# EAGLE library part HRS-MICRO-SD-PIGGY (library hirosemicrosd-piggy)
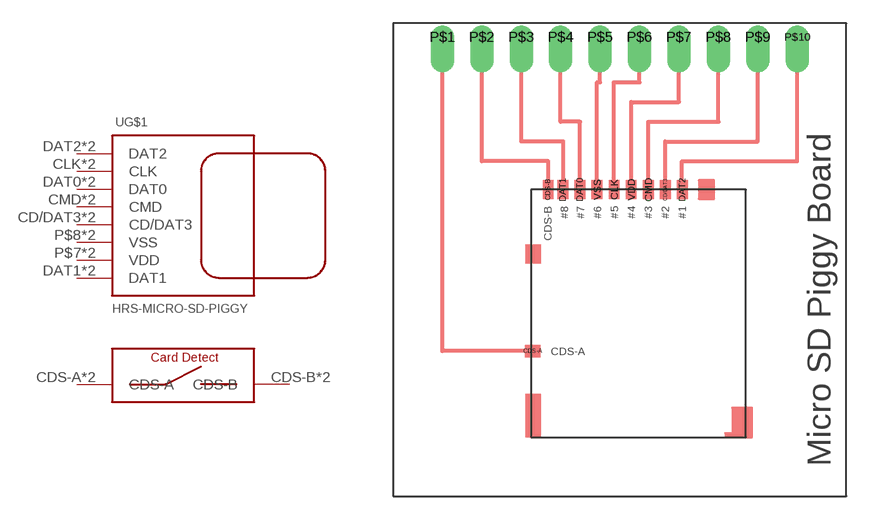
[diagram p1: symbol with the pads of HIROSE-MICROSD-V2; footprint HIROSE-MICROSD-V2]

Designator prefix -; gates G$1=HIROSE-MICRO-SD G$2=MICRO-SD-CDS

## HRS-MICRO-SD-PIGGY  [HIROSE-MICROSD-V2]
CD/DAT3  G$1:CD/DAT3
CDS-A  G$2:CDS-A
CDS-B  G$2:CDS-B
CLK  G$1:CLK
CMD  G$1:CMD
DAT0  G$1:DAT0
DAT1  G$1:DAT1
DAT2  G$1:DAT2
P$1  G$1:CD/DAT3
P$2  G$1:CLK
P$3  G$1:DAT0
P$4  G$1:DAT1
P$5  G$1:CMD
P$6  G$1:DAT2
P$7  G$1:VDD  pas
P$8  G$1:VSS  pas
P$9  G$2:CDS-A
P$10  G$2:CDS-B
VDD  G$1:VDD  pas
VSS  G$1:VSS  pas

## Footprint HIROSE-MICROSD-V2 (pad centres in mm)
smd 0.7 x 1.2: CD/DAT3 7.38,14.68; CDS-B -0.17,14.68; CLK 4.08,14.68; CMD 6.28,14.68; DAT0 1.88,14.68; DAT1 0.78,14.68; DAT2 8.48,14.68; VDD 5.18,14.68; VSS 2.98,14.68
smd 1 x 0.8: CDS-A -1.17,4.28
drill 1 offset: P$1 -6.985,24.511; P$2 -4.445,24.511; P$3 -1.905,24.511; P$4 0.635,24.511; P$5 3.175,24.511; P$6 5.715,24.511; P$7 8.255,24.511; P$8 10.795,24.511; P$9 13.335,24.511; P$10 15.875,24.511